# Altium schematic symbol library MJ-63022B.SchLib: 1 symbol
Pins are listed as number, name and electrical type; pins without a type are passive.

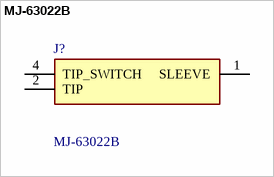
[diagram p0: symbol MJ-63022B]

## MJ-63022B
designator J?
6.35 mm, Mono, Right Angle, Through Hole Mount, 2 Conductors, 1 Internal Switch, Audio Jack Connector; Manufacturer_Name: Same Sky; Geometry.Height: 12.8mm; Mouser Part Number: 490-MJ-63022B; Mouser Price/Stock: https://www.mouser.co.uk/ProductDetail/CUI-Devices/MJ-63022B?qs=hWgE7mdIu5QSu1ii218TqA%3D%3D; Manufacturer_Part_Number: MJ-63022B; Datasheet Link: https://www.sameskydevices.com/product/resource/supplyframepdf/mj-63022b.pdf
footprint MJ63022B
pins: 1 SLEEVE, 2 TIP, 4 TIP_SWITCH